# Altium schematic symbol library ArmRobot.Schlib1.SchLib: 13 symbols
Pins are listed as number, name and electrical type; pins without a type are passive.

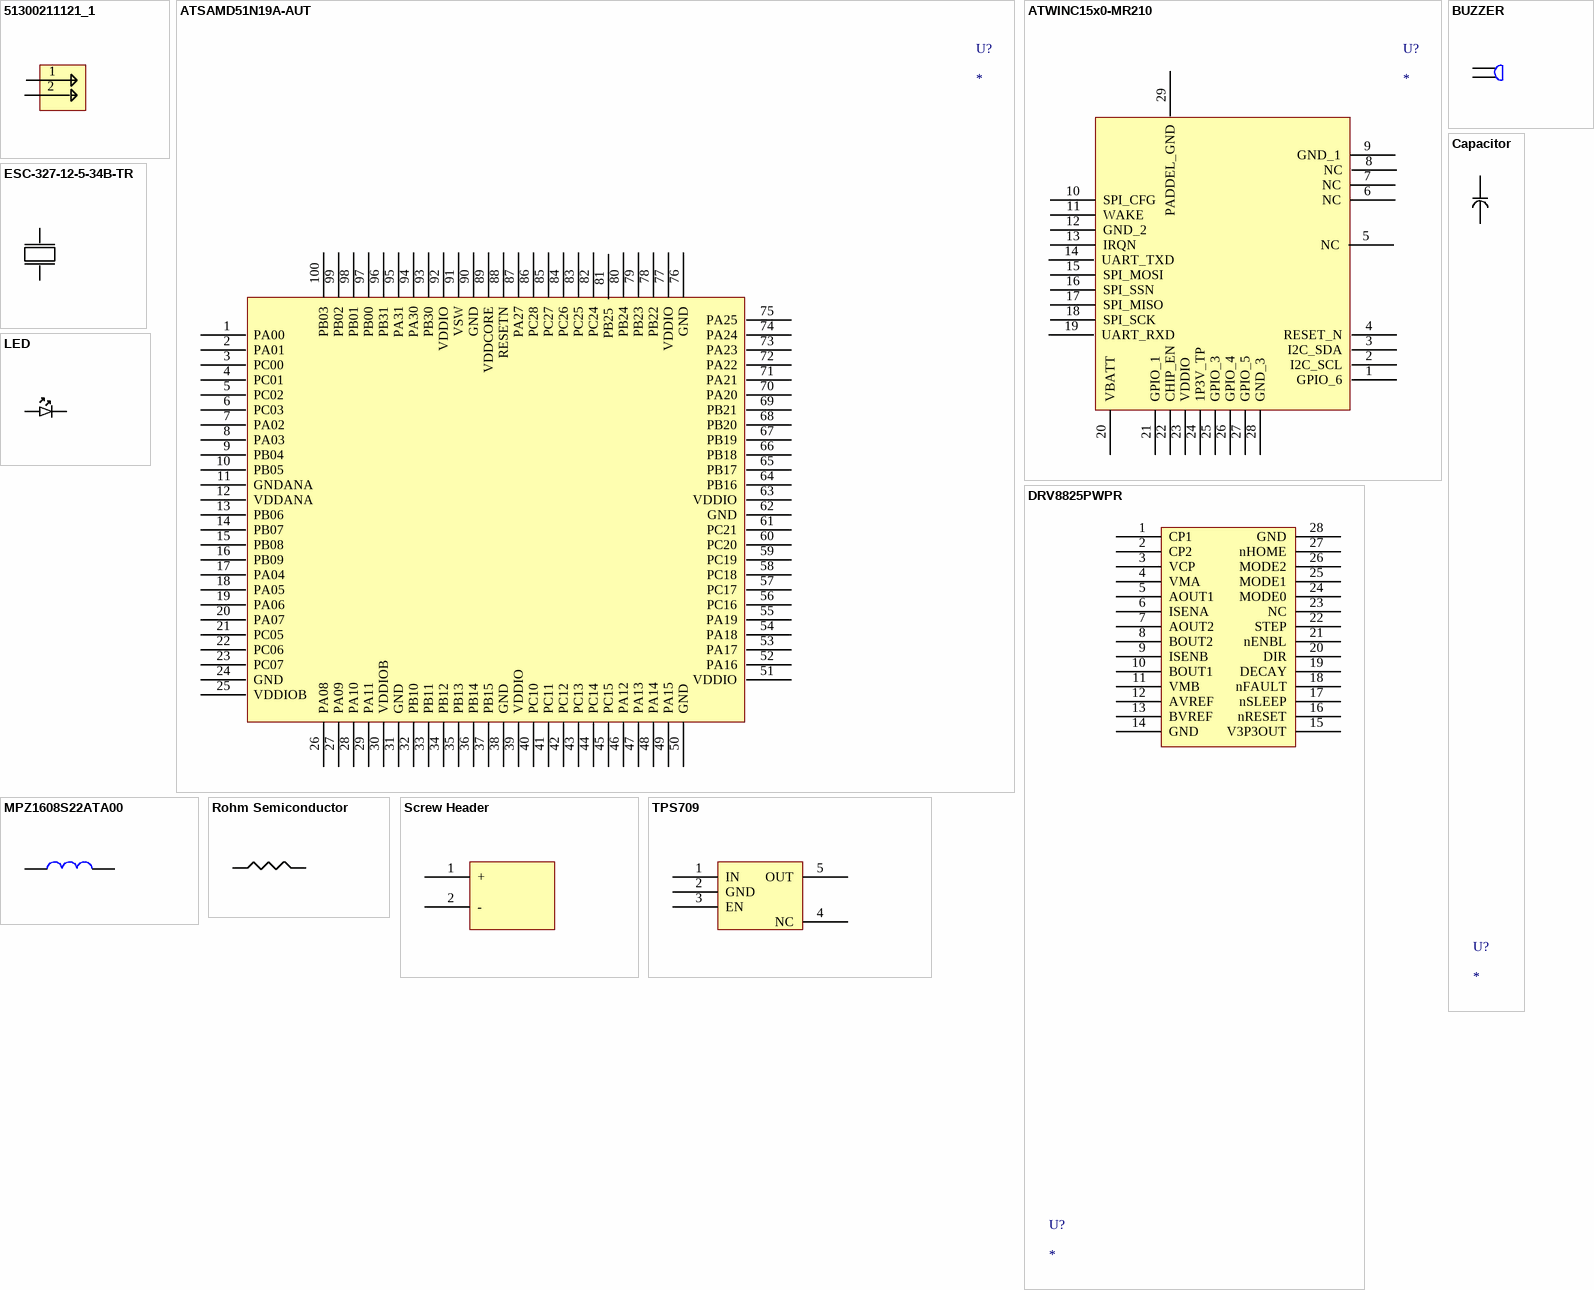
[diagram p0: symbols 51300211121_1 to TPS709]

## 51300211121_1
designator ?
pins: 1, 2

## ATSAMD51N19A-AUT
designator U?
pins: 1 PA00, 2 PA01, 3 PC00, 4 PC01, 5 PC02, 6 PC03, 7 PA02, 8 PA03, 9 PB04, 10 PB05, 11 GNDANA, 12 VDDANA, 13 PB06, 14 PB07, 15 PB08, 16 PB09, 17 PA04, 18 PA05, 19 PA06, 20 PA07, 21 PC05, 22 PC06, 23 PC07, 24 GND, 25 VDDIOB, 26 PA08, 27 PA09, 28 PA10, 29 PA11, 30 VDDIOB, 31 GND, 32 PB10, 33 PB11, 34 PB12, 35 PB13, 36 PB14, 37 PB15, 38 GND, 39 VDDIO, 40 PC10, 41 PC11, 42 PC12, 43 PC13, 44 PC14, 45 PC15, 46 PA12, 47 PA13, 48 PA14, 49 PA15, 50 GND, 51 VDDIO, 52 PA16, 53 PA17, 54 PA18, 55 PA19, 56 PC16, 57 PC17, 58 PC18, 59 PC19, 60 PC20, 61 PC21, 62 GND, 63 VDDIO, 64 PB16, 65 PB17, 66 PB18, 67 PB19, 68 PB20, 69 PB21, 70 PA20, 71 PA21, 72 PA22, 73 PA23, 74 PA24, 75 PA25, 76 GND, 77 VDDIO, 78 PB22, 79 PB23, 80 PB24, 81 PB25, 82 PC24, 83 PC25, 84 PC26, 85 PC27, 86 PC28, 87 PA27, 88 RESETN, 89 VDDCORE, 90 GND, 91 VSW, 92 VDDIO, 93 PB30, 94 PA30, 95 PA31, 96 PB31, 97 PB00, 98 PB01, 99 PB02, 100 PB03

## ATWINC15x0-MR210
designator U?
pins: 1 GPIO_6, 2 I2C_SCL, 3 I2C_SDA, 4 RESET_N, 5 NC, 6 NC, 7 NC, 8 NC, 9 GND_1, 10 SPI_CFG, 11 WAKE, 12 GND_2, 13 IRQN, 14 UART_TXD, 15 SPI_MOSI, 16 SPI_SSN, 17 SPI_MISO, 18 SPI_SCK, 19 UART_RXD, 20 VBATT, 21 GPIO_1, 22 CHIP_EN, 23 VDDIO, 24 1P3V_TP, 25 GPIO_3, 26 GPIO_4, 27 GPIO_5, 28 GND_3, 29 PADDEL_GND

## BUZZER
designator U?
pins: ?1, ?2

## Capacitor
designator U?
pins: ?1, ?2

## DRV8825PWPR
designator U?
pins: 1 CP1, 2 CP2, 3 VCP, 4 VMA, 5 AOUT1, 6 ISENA, 7 AOUT2, 8 BOUT2, 9 ISENB, 10 BOUT1, 11 VMB, 12 AVREF, 13 BVREF, 14 GND, 15 V3P3OUT, 16 nRESET, 17 nSLEEP, 18 nFAULT, 19 DECAY, 20 DIR, 21 nENBL, 22 STEP, 23 NC, 24 MODE0, 25 MODE1, 26 MODE2, 27 nHOME, 28 GND

## ESC-327-12-5-34B-TR
designator U?, comment 32.758k Hz
pins: ?1, ?2

## LED
designator ?
pins: ?1, ?2

## MPZ1608S22ATA00
designator U?
pins: ?1, ?2

## Rohm Semiconductor
designator U?
pins: ?1, ?2

## Screw Header
designator U?
pins: 1 +, 2 -

## TPS709
designator U?
pins: 1 IN, 2 GND, 3 EN, 4 NC, 5 OUT

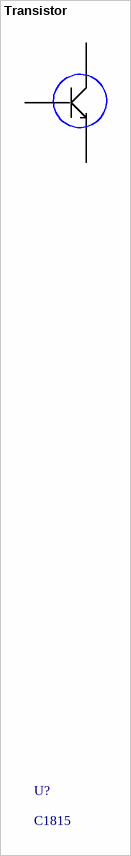
[diagram p1: symbol Transistor]

## Transistor
designator U?, comment C1815
pins: ?1, ?2, ?3